# EAGLE library part MCP4822 (library kvitekp)
MCP4822 Dual 12bit SPI DAC with internal VREF
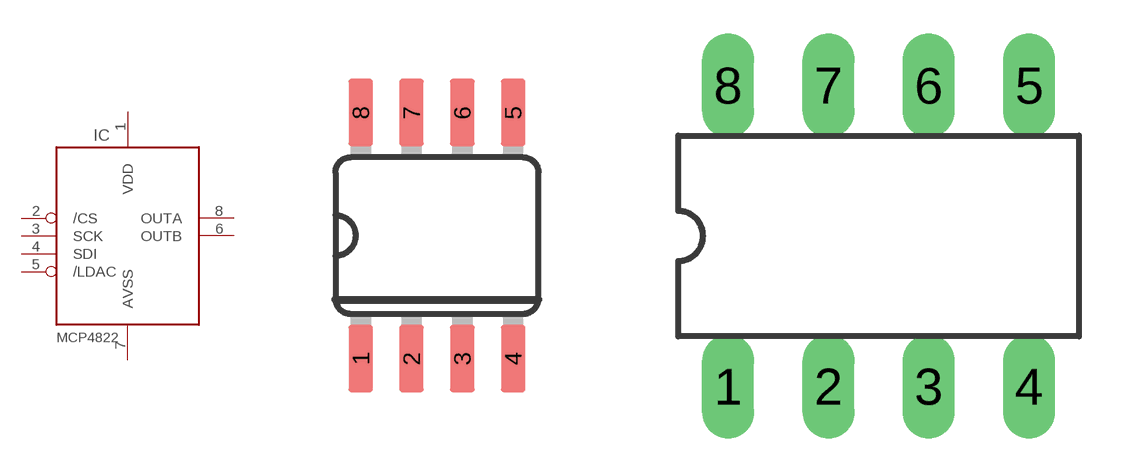
[diagram p12: symbol with the pads of SO08; footprints SO08, DIL8]

Designator prefix IC

## MCP4822SO08  [SO08]
1  VDD  sup
2  /CS  in
3  SCK  in
4  SDI  in
5  /LDAC  in
6  OUTB  out
7  AVSS  sup
8  OUTA  out

## MCP4822P  [DIL8]
Pads as for SO08

## Footprint SO08 (pad centres in mm)
smd 0.61 x 1.676: 1 -1.905,-3.073; 2 -0.635,-3.073; 3 0.635,-3.073; 4 1.905,-3.073; 5 1.905,3.073; 6 0.635,3.073; 7 -0.635,3.073; 8 -1.905,3.073

## Footprint DIL8 (pad centres in mm)
Dual In Line package type P
drill 0.813 long: 1 -3.81,-3.81; 2 -1.27,-3.81; 3 1.27,-3.81; 4 3.81,-3.81; 5 3.81,3.81; 6 1.27,3.81; 7 -1.27,3.81; 8 -3.81,3.81